# Altium schematic symbol library Harwin Incorporated.SchLib: 13 symbols
Pins are listed as number, name and electrical type; pins without a type are passive.

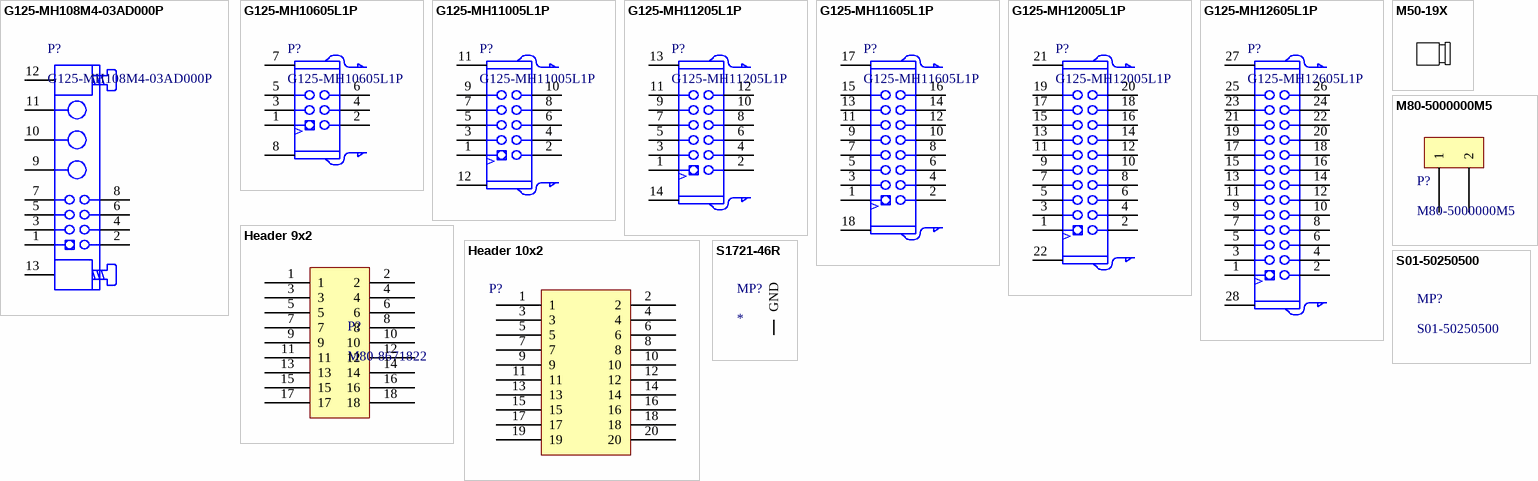
[diagram p0: symbols G125-MH108M4-03AD000P to S1721-46R]

## G125-MH108M4-03AD000P
designator P?
pins: 1, 2, 3, 4, 5, 6, 7, 8, 9, 10, 11, 12 M1, 13 M2

## G125-MH10605L1P
designator P?
pins: 1, 2, 3, 4, 5, 6, 7, 8

## G125-MH11005L1P
designator P?
pins: 1, 2, 3, 4, 5, 6, 7, 8, 9, 10, 11, 12

## G125-MH11205L1P
designator P?
pins: 1, 2, 3, 4, 5, 6, 7, 8, 9, 10, 11, 12, 13, 14

## G125-MH11605L1P
designator P?
pins: 1, 2, 3, 4, 5, 6, 7, 8, 9, 10, 11, 12, 13, 14, 15, 16, 17, 18

## G125-MH12005L1P
designator P?
pins: 1, 2, 3, 4, 5, 6, 7, 8, 9, 10, 11, 12, 13, 14, 15, 16, 17, 18, 19, 20, 21, 22

## G125-MH12605L1P
designator P?
pins: 1, 2, 3, 4, 5, 6, 7, 8, 9, 10, 11, 12, 13, 14, 15, 16, 17, 18, 19, 20, 21, 22, 23, 24, 25, 26, 27, 28

## Header 9x2
designator P?, comment M80-8671822
pins: 1, 2, 3, 4, 5, 6, 7, 8, 9, 10, 11, 12, 13, 14, 15, 16, 17, 18

## Header 10x2
designator P?  (value not drawn)
pins: 1, 2, 3, 4, 5, 6, 7, 8, 9, 10, 11, 12, 13, 14, 15, 16, 17, 18, 19, 20

## M50-19X
designator J?

## M80-5000000M5
designator P?
Supplier 1: Digi-Key; Supplier 2: Mouser; Supplier 3: Newark
pins: 1, 2

## S01-50250500
designator MP?

## S1721-46R
designator MP?
pins: 1 GND